# EAGLE library part AST027-08 (library con-ria-ast027-750)
RIA Springcon AST027-08 Grid 7,5mm Source: http://www.riaconnect.com/_assets/catalog/2008_TB_40.pdf
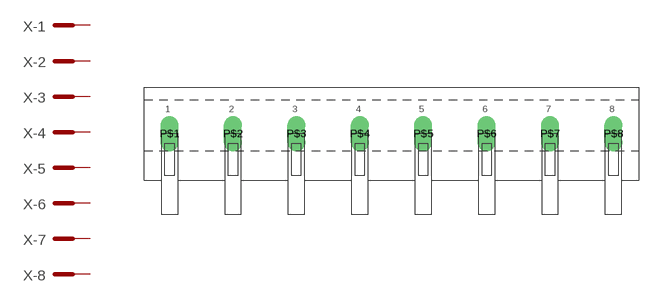
[diagram p1: symbol with the pads of P_AST027-08; footprint P_AST027-08]

Designator prefix X; gates -1=AST_PAD -2=AST_PAD -3=AST_PAD -4=AST_PAD -5=AST_PAD -6=AST_PAD -7=AST_PAD -8=AST_PAD

## AST027-08  [P_AST027-08]
P$1  -1:SK  pas
P$2  -2:SK  pas
P$3  -3:SK  pas
P$4  -4:SK  pas
P$5  -5:SK  pas
P$6  -6:SK  pas
P$7  -7:SK  pas
P$8  -8:SK  pas

## Footprint P_AST027-08 (pad centres in mm)
drill 1.4 long: P$1 -26.67,0; P$2 -19.17,0; P$3 -11.67,0; P$4 -4.17,0; P$5 3.33,0; P$6 10.83,0; P$7 18.33,0; P$8 25.83,0